# Altium footprint library Resistors.PcbLib: 5 footprints
Each footprint in its own frame and in the unit in brackets; x right, y up, seen from the top. Pads: shape width x height; smd on the part's side, far side on the other; paste and mask are expansions set on the pad; w line width, h text height; cw(c..) or ccw(c..) is an arc to the next point about the centre after c.
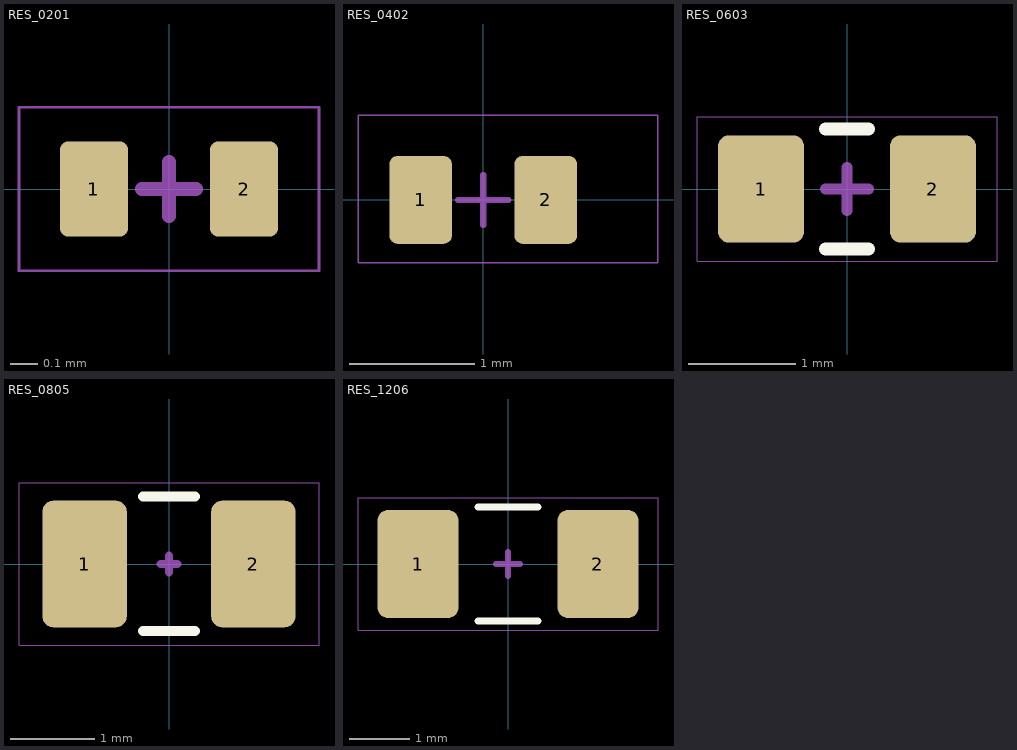
[diagram p0: the footprints below, top view; thin cyan lines are the x and y axes]

## RES_0201 [mm]
height 0.45
pads (2):
  rrect25% 0.25x0.35 smd: 1(-0.275,0) 2(0.275,0)
Top Component Center:
  lines w0.05: -0.1,0 0,0 ; 0,-0.1 0,0 ; 0,0.1 0,0 ; 0.1,0 0,0
Top Designator:
  text ".Designator" at -2.499,-0.167 h0.5
Top Courtyard (Mech15):
  lines w0.01: -0.55,-0.3 0.55,-0.3 0.55,0.3 -0.55,0.3 -0.55,-0.3
3D body "RESC-0201 v4.step": height 0.21, standoff 0, extent -0.3,-0.15 0.3,0.15

## RES_0402 [mm]
height 0.45
pads (2):
  rrect25% 0.5x0.7 smd: 1(-0.5,0) 2(0.5,0)
Top Component Center:
  lines w0.05: -0.2,0 0,0 ; 0,-0.2 0,0 ; 0,0.2 0,0 ; 0.2,0 0,0
Top Designator:
  text ".Designator" at -2.499,-0.167 h0.5
Top Courtyard (Mech15):
  lines w0.01: -1,-0.5 1.397,-0.5 1.397,0.675 -1,0.675 -1,-0.5
3D body "RESC-0402 v2.step": height 0.41, standoff 0, extent -0.525,-0.275 0.525,0.275

## RES_0603 [mm]
height 0.45
pads (2):
  rrect25% 0.8x1 smd: 1(-0.8,0) 2(0.8,0)
Top Overlay:
  lines w0.12: -0.2,-0.559 0,-0.559 0.2,-0.559 ; -0.2,0.559 0,0.559 0.2,0.559
Top Component Center:
  lines w0.1: -0.2,0 0,0 ; 0,-0.2 0,0 ; 0,0.2 0,0 ; 0.2,0 0,0
Top Designator:
  text ".Designator" at -4.998,-0.333 h1
Top Courtyard (Mech15):
  lines w0.01: -1.397,-0.675 -1.397,0.675 1.397,0.675 1.397,-0.675 -1.397,-0.675
3D body "RESC-0603 v1.step": height 0.56, standoff 0, extent -0.859,-0.468 0.841,0.432

## RES_0805 [mm]
pads (2):
  rrect25% 1x1.5 smd: 1(-1,0) 2(1,0)
Top Overlay:
  lines w0.12: -0.308,-0.795 -0.001,-0.795 0.305,-0.795 ; -0.306,0.8 0,0.8 0.307,0.8
Top Component Center:
  lines w0.1: -0.1,0 0,0 ; 0,-0.1 0,0 ; 0,0.1 0,0 ; 0.1,0 0,0
Top Designator:
  text ".Designator" at -7.618,-0.508 h1.52
Top Courtyard (Mech15):
  lines w0.01: -1.778,-0.965 -1.778,0.965 1.778,0.965 1.778,-0.965 -1.778,-0.965
3D body "RESC-0805 v1.step": height 0.61, standoff 0, extent -1.05,-0.675 1.05,0.675

## RES_1206 [mm]
pads (2):
  rrect25% 1.35x1.8 smd: 1(-1.5,0) 2(1.5,0)
Top Overlay:
  lines w0.12: -0.5,-0.95 0,-0.95 0.5,-0.95 ; -0.5,0.95 0,0.95 0.5,0.95
Top Component Center:
  lines w0.1: -0.2,0 0,0 ; 0,-0.2 0,0 ; 0,0.2 0,0 ; 0.2,0 0,0
Top Designator:
  text ".Designator" at -7.618,-0.508 h1.52
Top Courtyard (Mech15):
  lines w0.01: -2.5,-1.1 -2.5,1.1 0,1.1 2.5,1.1 2.5,-1.1 0,-1.1 -2.5,-1.1
3D body "RESC-1206 v1.step": height 0.66, standoff 0, extent -1.65,-0.85 1.65,0.85